# Altium footprint library EverLight Photo Transistor.PcbLib: 1 footprints
Each footprint in its own frame and in the unit in brackets; x right, y up, seen from the top. Pads: shape width x height; smd on the part's side, far side on the other; paste and mask are expansions set on the pad; w line width, h text height; cw(c..) or ccw(c..) is an arc to the next point about the centre after c.
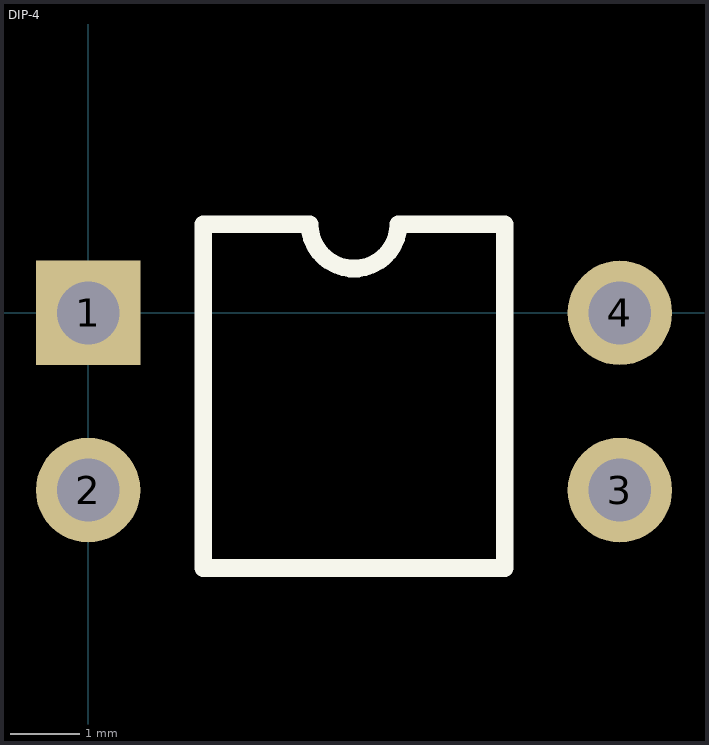
[diagram p0: the footprint, top view; thin cyan lines are the x and y axes]

## DIP-4 [mm]
pads (4):
  rect 1.5x1.5 hole 0.9: 1(0,0)
  round 1.5 hole 0.9: 2(0,-2.54) 3(7.62,-2.54) 4(7.62,0)
Top Overlay:
  lines w0.254: 1.651,-3.658 5.969,-3.658 5.969,1.27 4.445,1.27 cw(c3.81,1.27) 3.175,1.27 1.651,1.27 1.651,-3.658